# Altium footprint library Components - 11.04.26 - 10.24.PcbLib: 4 footprints
Each footprint in its own frame and in the unit in brackets; x right, y up, seen from the top. Pads: shape width x height; smd on the part's side, far side on the other; paste and mask are expansions set on the pad; w line width, h text height; cw(c..) or ccw(c..) is an arc to the next point about the centre after c.
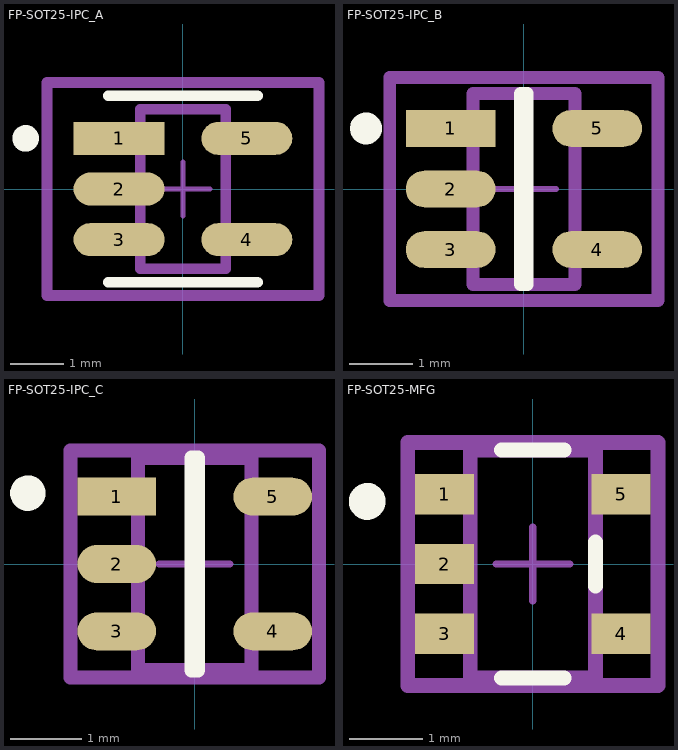
[diagram p0: the footprints below, top view; thin cyan lines are the x and y axes]

## FP-SOT25-IPC_A [mm]
pads (5):
  rect 1.707x0.616 smd paste+0 mask+0: 1(-1.201,0.95)
  rrect100% 1.707x0.616 smd paste+0 mask+0: 2(-1.201,0) 3(-1.201,-0.95) 4(1.201,-0.95) 5(1.201,0.95)
Top Overlay:
  circle w0.25: c-2.954,0.95 r0.125
  lines w0.2: -1.4,-1.75 1.4,-1.75 ; -1.4,1.75 1.4,1.75
Top Assembly:
  lines w0.2: -2.554,-2 2.554,-2 2.554,2 -2.554,2 -2.554,-2
  text ".Designator" at 0,-0.001 h1
Top 3D Body:
  lines w0.2: -0.8,-1.5 0.8,-1.5 0.8,1.5 -0.8,1.5 -0.8,-1.5
Top Courtyard:
  lines w0.2: -2.554,-2 2.554,-2 2.554,2 -2.554,2 -2.554,-2
Top Component Center:
  lines w0.1: -0.5,0 0.5,0 ; 0,-0.5 0,0.5
3D body "IC_Diodes_Inc_AP2127K-3_3TRG1_eec.STEP": height 0.25, standoff 0, extent -2.554,-2 2.554,2

## FP-SOT25-IPC_B [mm]
pads (5):
  rect 1.407x0.576 smd paste+0 mask+0: 1(-1.151,0.95)
  rrect100% 1.407x0.576 smd paste+0 mask+0: 2(-1.151,0) 3(-1.151,-0.95) 4(1.151,-0.95) 5(1.151,0.95)
Top Overlay:
  circle w0.25: c-2.479,0.95 r0.125
  lines w0.2: -0.053,-1.5 -0.053,1.5 0.053,1.5 0.053,-1.5 -0.053,-1.5
Top Assembly:
  lines w0.2: -2.104,-1.75 2.104,-1.75 2.104,1.75 -2.104,1.75 -2.104,-1.75
  text ".Designator" at 0,0.188 h1
Top 3D Body:
  lines w0.2: -0.8,-1.5 0.8,-1.5 0.8,1.5 -0.8,1.5 -0.8,-1.5
Top Courtyard:
  lines w0.2: -2.104,-1.75 2.104,-1.75 2.104,1.75 -2.104,1.75 -2.104,-1.75
Top Component Center:
  lines w0.1: -0.5,0 0.5,0 ; 0,-0.5 0,0.5
3D body "IC_Diodes_Inc_AP2127K-3_3TRG1_eec.STEP": height 0.25, standoff 0, extent -2.104,-1.75 2.104,1.75

## FP-SOT25-IPC_C [mm]
pads (5):
  rect 1.107x0.536 smd paste+0 mask+0: 1(-1.101,0.95)
  rrect100% 1.107x0.536 smd paste+0 mask+0: 2(-1.101,0) 3(-1.101,-0.95) 4(1.101,-0.95) 5(1.101,0.95)
Top Overlay:
  circle w0.25: c-2.354,1 r0.125
  lines w0.2: -0.047,-1.5 0.047,-1.5 0.047,1.5 -0.047,1.5 -0.047,-1.5
Top Assembly:
  lines w0.2: -1.754,-1.6 1.754,-1.6 1.754,1.6 -1.754,1.6 -1.754,-1.6
  text ".Designator" at 0,0.188 h1
Top 3D Body:
  lines w0.2: -0.8,-1.5 0.8,-1.5 0.8,1.5 -0.8,1.5 -0.8,-1.5
Top Courtyard:
  lines w0.2: -1.754,-1.6 1.754,-1.6 1.754,1.6 -1.754,1.6 -1.754,-1.6
Top Component Center:
  lines w0.1: -0.5,0 0.5,0 ; 0,-0.5 0,0.5
3D body "IC_Diodes_Inc_AP2127K-3_3TRG1_eec.STEP": height 0.25, standoff 0, extent -1.754,-1.6 1.754,1.6

## FP-SOT25-MFG [mm]
pads (5):
  rect 0.8x0.55 smd paste+0 mask+0: 1(-1.2,0.95) 2(-1.2,0) 3(-1.2,-0.95) 4(1.2,-0.95) 5(1.2,0.95)
Top Overlay:
  circle w0.25: c-2.25,0.85 r0.125
  lines w0.2: -0.425,-1.55 0.425,-1.55 ; -0.425,1.55 0.425,1.55 ; 0.85,-0.3 0.85,0.3
Top Assembly:
  lines w0.2: -1.7,-1.65 1.7,-1.65 1.7,1.65 -1.7,1.65 -1.7,-1.65
  text ".Designator" at 0,-0.001 h1
Top 3D Body:
  lines w0.2: -0.85,-1.55 0.85,-1.55 0.85,1.55 -0.85,1.55 -0.85,-1.55
Top Courtyard:
  lines w0.2: -1.7,-1.65 1.7,-1.65 1.7,1.65 -1.7,1.65 -1.7,-1.65
Top Component Center:
  lines w0.1: -0.5,0 0.5,0 ; 0,-0.5 0,0.5
3D body "IC_Diodes_Inc_AP2127K-3_3TRG1_eec.STEP": height 0.25, standoff 0, extent -1.7,-1.65 1.7,1.65